# EAGLE library part SCREEN (library project_2)
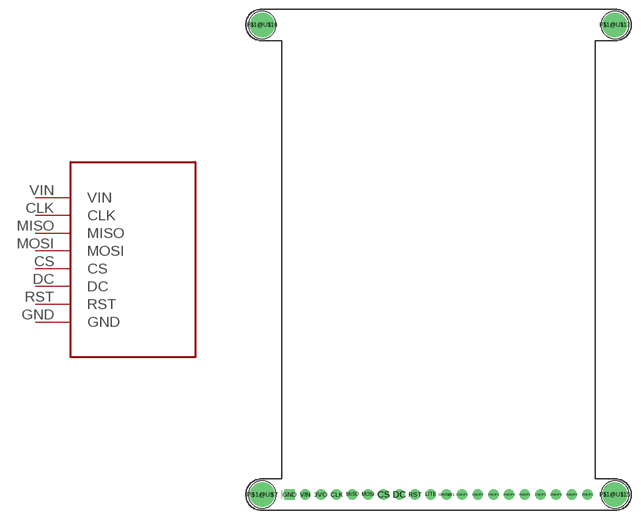
[diagram p2: symbol with the pads of SCREEN; footprint SCREEN]

Designator prefix -

## SCREEN  [SCREEN]
CLK  CLK
CS  CS
DC  DC
GND  GND
MISO  MISO
MOSI  MOSI
RST  RST
VIN  VIN

## Footprint SCREEN (pad centres in mm)
Package generated by make-group2pac.ulp from: C:/Users/octavo/Downloads/Adafruit-2.8-TFT-with-Capacitive-Touch-PCB-master/Adafruit 2.8 inch TFT w Capacitive Touch.brd at: 12/12/2023 9:54 PM
drill 1 pad 1.676: 3VO -19.05,-38.1; 12@JP2 3.81,-38.1; 13@JP2 6.35,-38.1; 14@JP2 8.89,-38.1; 15@JP2 11.43,-38.1; 16@JP2 13.97,-38.1; 17@JP2 16.51,-38.1; 18@JP2 19.05,-38.1; 19@JP2 21.59,-38.1; 20@JP2 24.13,-38.1; CLK -16.51,-38.1; CS -8.89,-38.1; DC -6.35,-38.1; GND@1 1.27,-38.1; LITE -1.27,-38.1; MISO -13.97,-38.1; MOSI -11.43,-38.1; RST -3.81,-38.1; VIN -21.59,-38.1
drill 1 pad 1.676 square: GND -24.13,-38.1
drill 3 pad 3.6: P$1@U$7 -28.575,-38.1; P$1@U$15 28.575,-38.1; P$1@U$16 -28.575,38.1; P$1@U$17 28.575,38.1